# EAGLE library part XR-2206 (library 1A-meinLib)
Functiongenerator <10MHz, FSK, Multiplier, Sinus, Dreieck, Rechteck, EXAR
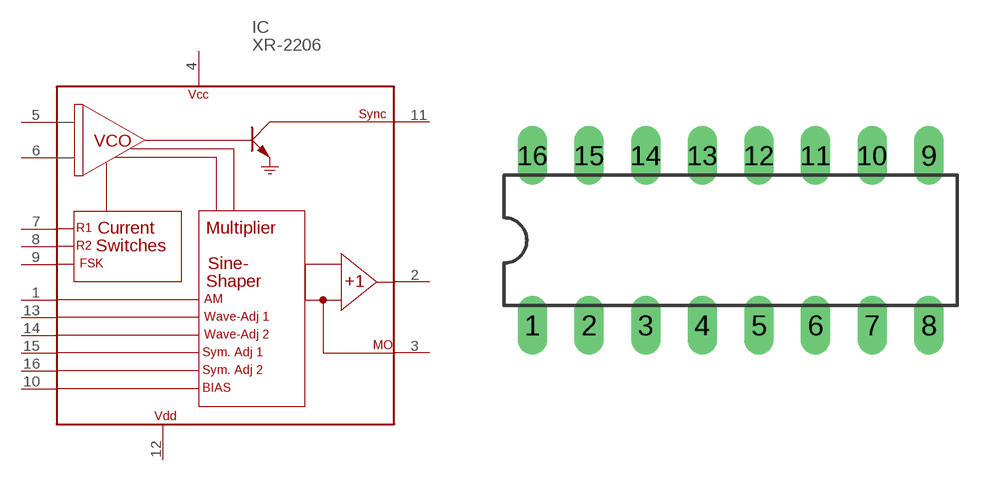
[diagram p317: symbol with the pads of DIL16; footprint DIL16]

Designator prefix IC

## XR-2206  [DIL16]
1  AMSI  in
2  OUT  out
3  MO  in
4  VCC  pwr
5  TC1  in
6  TC2  in
7  TR1  pas
8  TR2  pas
9  FSKI  pas
10  BIAS  pas
11  SYNCO  oc
12  GND  pwr
13  WAVEA1  in
14  WAVEA2  in
15  SYMA1  in
16  SYMA2  in

## Footprint DIL16 (pad centres in mm)
Dual In Line Package
drill 0.813 long: 1 -8.89,-3.81; 2 -6.35,-3.81; 3 -3.81,-3.81; 4 -1.27,-3.81; 5 1.27,-3.81; 6 3.81,-3.81; 7 6.35,-3.81; 8 8.89,-3.81; 9 8.89,3.81; 10 6.35,3.81; 11 3.81,3.81; 12 1.27,3.81; 13 -1.27,3.81; 14 -3.81,3.81; 15 -6.35,3.81; 16 -8.89,3.81